# EAGLE library part SN74141 (library Parts)
BCD-TO-DECIMAL DECORDER/DRIVER
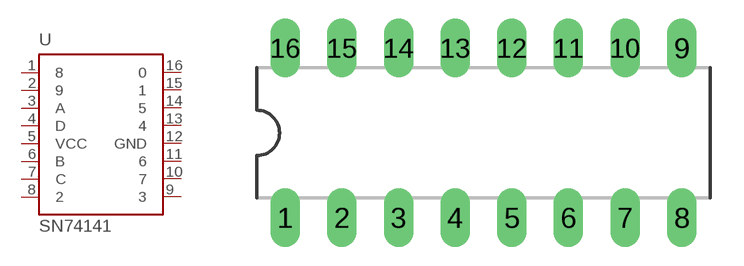
[diagram p2: symbol with the pads of DIL16; footprint DIL16]

Designator prefix U

## SN74141  [DIL16]
1  8  pas
2  9  pas
3  A  in
4  D  in
5  VCC  pas
6  B  in
7  C  in
8  2  pas
9  3  pas
10  7  pas
11  6  pas
12  GND  pas
13  4  pas
14  5  pas
15  1  pas
16  0  pas

## Footprint DIL16 (pad centres in mm)
Dual In Line Package
drill 0.813 long: 1 -8.89,-3.81; 2 -6.35,-3.81; 3 -3.81,-3.81; 4 -1.27,-3.81; 5 1.27,-3.81; 6 3.81,-3.81; 7 6.35,-3.81; 8 8.89,-3.81; 9 8.89,3.81; 10 6.35,3.81; 11 3.81,3.81; 12 1.27,3.81; 13 -1.27,3.81; 14 -3.81,3.81; 15 -6.35,3.81; 16 -8.89,3.81